# Altium footprint library PJ-320B_AudioJack.PcbLib: 1 footprints
Each footprint in its own frame and in the unit in brackets; x right, y up, seen from the top. Pads: shape width x height; smd on the part's side, far side on the other; paste and mask are expansions set on the pad; w line width, h text height; cw(c..) or ccw(c..) is an arc to the next point about the centre after c.
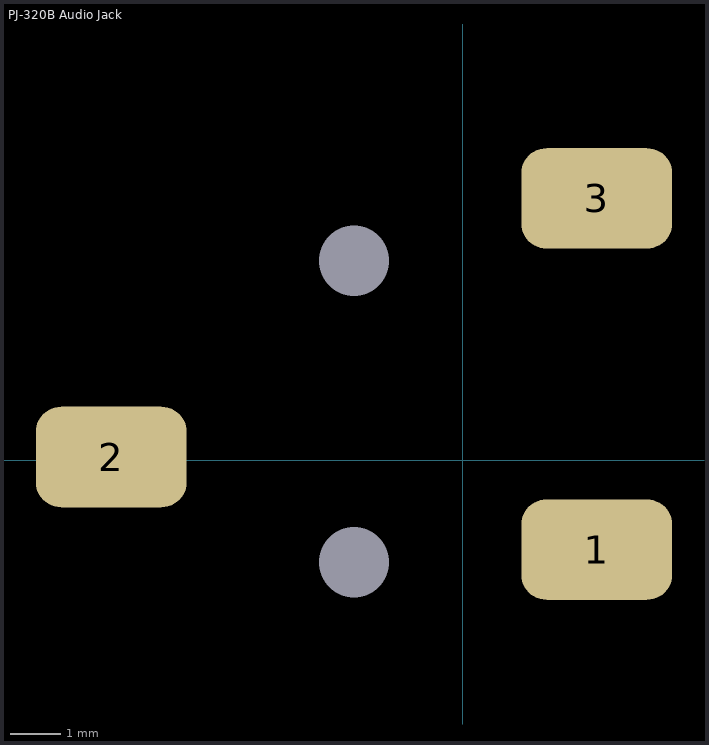
[diagram p0: the footprint, top view; thin cyan lines are the x and y axes]

## PJ-320B Audio Jack [mil]
pads (5):
  rrect50% 118.11x78.74 smd: 1(105,-70) 2(-275,2.5) 3(105,205)
  round 0 hole 55.12: 3(-85,-80) 3(-85,156.22)
3D body "PJ-320B_AudioJack v11.step": height 196.85, standoff -27.56, extent -302.77,-277.59 130.7,273.59